# Altium footprint library MY_PCB_Lib.PcbLib: 310 footprints (part 18 of 20)
Each footprint in its own frame and in the unit in brackets; x right, y up, seen from the top. Pads: shape width x height; smd on the part's side, far side on the other; paste and mask are expansions set on the pad; w line width, h text height; cw(c..) or ccw(c..) is an arc to the next point about the centre after c.
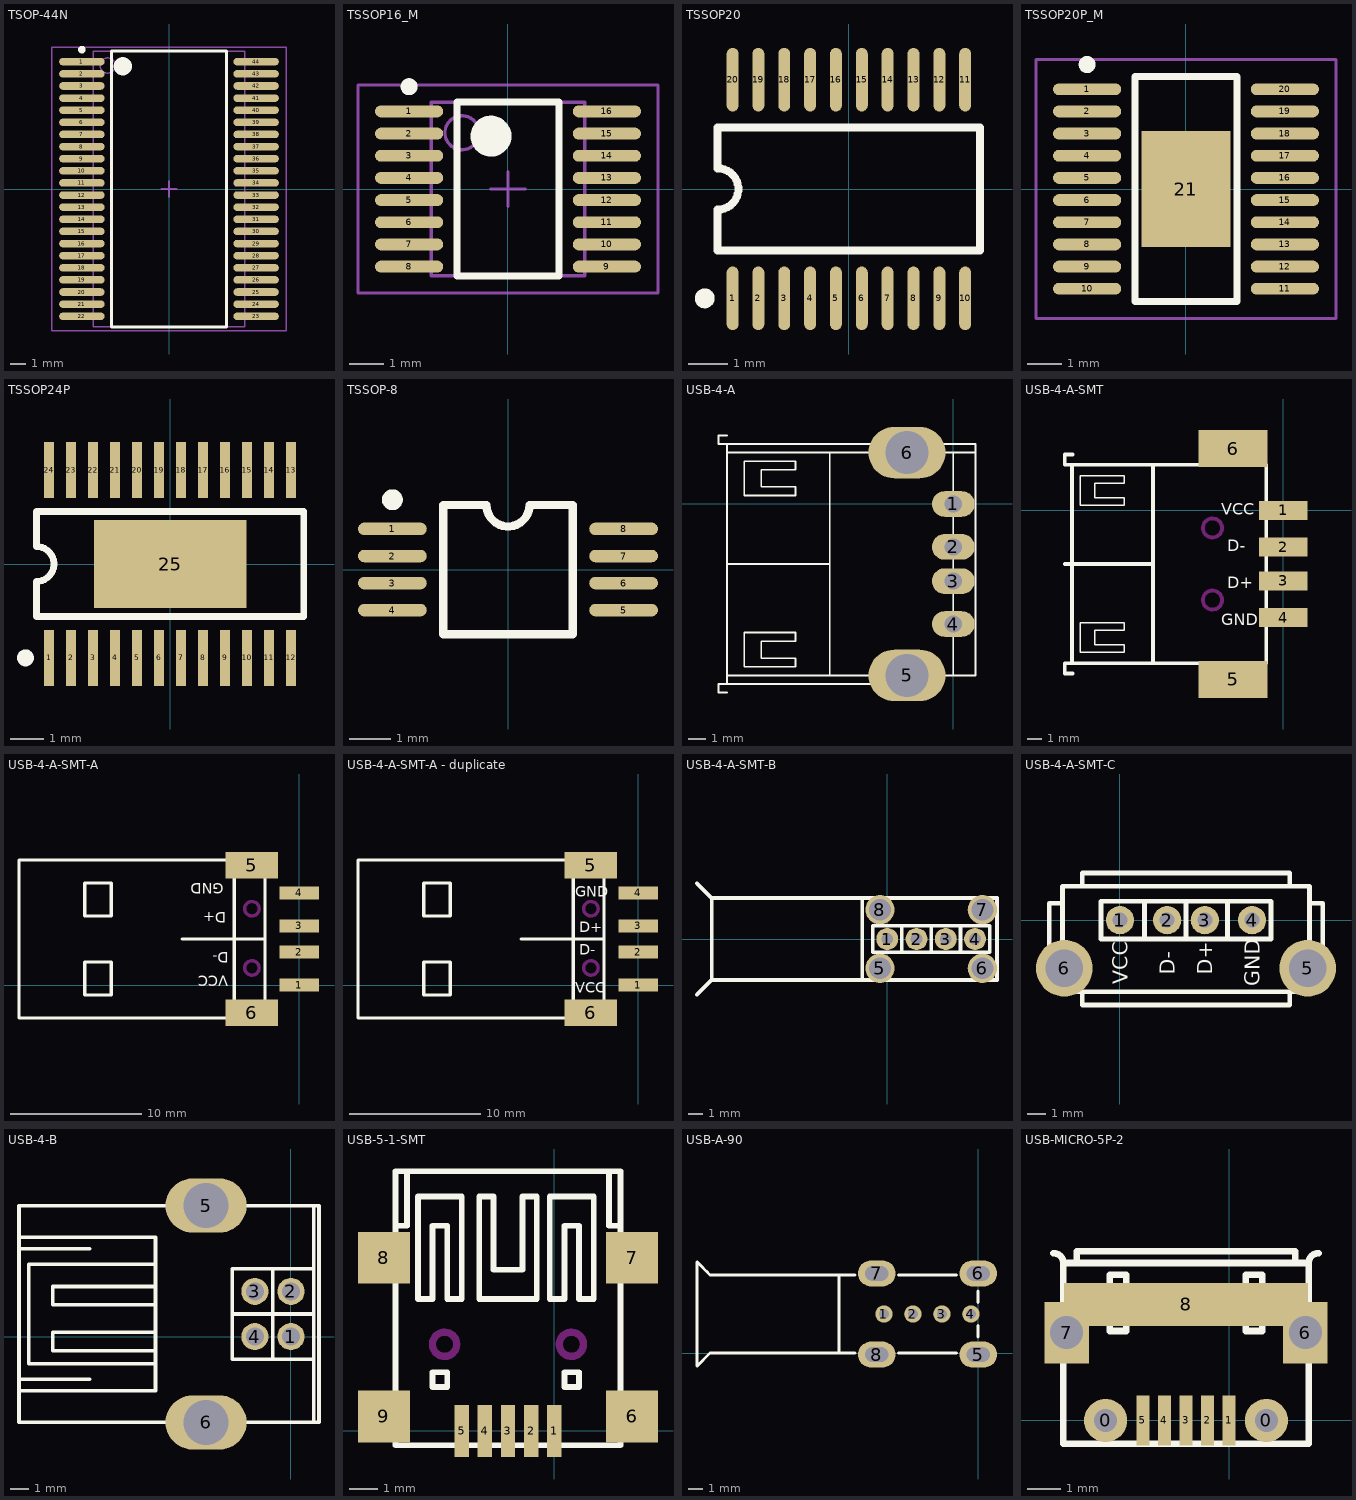
[diagram p17: the footprints below, top view; thin cyan lines are the x and y axes]

## TSOP-44N [mm] "TSOP, 44-Leads, Body 18.2x10.0mm (max), Pitch 0.80mm, IPC Medium Density"
height 1.2
pads (44):
  oval 3x0.5 smd: 1(-5.75,8.4) 2(-5.75,7.6) 3(-5.75,6.8) 4(-5.75,6) 5(-5.75,5.2) 6(-5.75,4.4) 7(-5.75,3.6) 8(-5.75,2.8) 9(-5.75,2) 10(-5.75,1.2) 11(-5.75,0.4) 12(-5.75,-0.4) 13(-5.75,-1.2) 14(-5.75,-2) 15(-5.75,-2.8) 16(-5.75,-3.6) 17(-5.75,-4.4) 18(-5.75,-5.2) 19(-5.75,-6) 20(-5.75,-6.8) 21(-5.75,-7.6) 22(-5.75,-8.4) 23(5.75,-8.4) 24(5.75,-7.6) 25(5.75,-6.8) 26(5.75,-6) 27(5.75,-5.2) 28(5.75,-4.4) 29(5.75,-3.6) 30(5.75,-2.8) 31(5.75,-2) 32(5.75,-1.2) 33(5.75,-0.4) 34(5.75,0.4) 35(5.75,1.2) 36(5.75,2) 37(5.75,2.8) 38(5.75,3.6) 39(5.75,4.4) 40(5.75,5.2) 41(5.75,6) 42(5.75,6.8) 43(5.75,7.6) 44(5.75,8.4)
Top Overlay:
  circle w0.6: c-3.05,8.1 r0.3
  circle w0.25: c-5.75,9.2 r0.125
  lines w0.2: -3.81,-9.1 3.81,-9.1 3.81,9.1 -3.81,9.1 -3.81,-9.1
Mechanical 13:
  circle w0.1: c-4.05,8.15 r0.5
  lines w0.1: -5,-9.1 5,-9.1 5,9.1 -5,9.1 -5,-9.1
Mechanical 15:
  lines w0.1: -0.5,0 0.5,0 ; 0,-0.5 0,0.5 ; -7.747,-9.35 7.747,-9.35 7.747,9.35 -7.747,9.35 -7.747,-9.35
3D body: height 1.2, standoff 0.2, extent -5,-9.1 5,9.1

## TSSOP16_M [mm] "TSOP, 16-Leads, Body 5x4.4mm, Pitch 0.65mm, IPC Low Density"
height 1.1
pads (16):
  oval 2x0.35 smd: 1(-2.9,2.275) 2(-2.9,1.625) 3(-2.9,0.975) 4(-2.9,0.325) 5(-2.9,-0.325) 6(-2.9,-0.975) 7(-2.9,-1.625) 8(-2.9,-2.275) 9(2.9,-2.275) 10(2.9,-1.625) 11(2.9,-0.975) 12(2.9,-0.325) 13(2.9,0.325) 14(2.9,0.975) 15(2.9,1.625) 16(2.9,2.275)
Top Overlay:
  circle w0.25: c-2.9,3 r0.125
  circle w0.6: c-0.5,1.55 r0.3
  lines w0.2: -1.5,-2.55 -1.5,2.55 1.5,2.55 1.5,-2.55 -1.5,-2.55
Mechanical 13:
  circle w0.1: c-1.35,1.65 r0.5
  lines w0.1: -2.25,-2.55 -2.25,2.55 2.25,2.55 2.25,-2.55 -2.25,-2.55
Mechanical 15:
  lines w0.1: -0.5,0 0.5,0 ; 0,-0.5 0,0.5 ; -4.4,-3.05 -4.4,3.05 4.4,3.05 4.4,-3.05 -4.4,-3.05
3D body: height 1.1, standoff 0, extent -2.25,-2.55 2.25,2.55

## TSSOP20 [mm] "Shrink Small Outline; 20 Leads; Body Width 4.4 mm; Pitch 0.65 mm"
height 1.1
pads (20):
  oval 0.3x1.6 smd: 1(-2.925,-2.75) 2(-2.275,-2.75) 3(-1.625,-2.75) 4(-0.975,-2.75) 5(-0.325,-2.75) 6(0.325,-2.75) 7(0.975,-2.75) 8(1.625,-2.75) 9(2.275,-2.75) 10(2.925,-2.75) 11(2.925,2.75) 12(2.275,2.75) 13(1.625,2.75) 14(0.975,2.75) 15(0.325,2.75) 16(-0.325,2.75) 17(-0.975,2.75) 18(-1.625,2.75) 19(-2.275,2.75) 20(-2.925,2.75)
Top Overlay:
  circle w0.25: c-3.625,-2.75 r0.125
  lines w0.2: -3.3,-1.55 3.3,-1.55 3.3,1.55 -3.3,1.55 -3.3,0.52 cw(c-3.3,0) -3.3,-0.52 -3.3,-1.55
3D body: height 1.1, standoff 0, extent -3.302,-1.905 3.302,1.905

## TSSOP20P_M [mm] "TSOP, 20-Leads, Body 6.5x4.4mm, Pitch 0.65mm, IPC Low Density"
height 1.1
pads (21):
  oval 2x0.35 smd: 1(-2.9,2.925) 2(-2.9,2.275) 3(-2.9,1.625) 4(-2.9,0.975) 5(-2.9,0.325) 6(-2.9,-0.325) 7(-2.9,-0.975) 8(-2.9,-1.625) 9(-2.9,-2.275) 10(-2.9,-2.925) 11(2.9,-2.925) 12(2.9,-2.275) 13(2.9,-1.625) 14(2.9,-0.975) 15(2.9,-0.325) 16(2.9,0.325) 17(2.9,0.975) 18(2.9,1.625) 19(2.9,2.275) 20(2.9,2.925)
  rect 2.6x3.4 smd: 21(0,0)
Top Overlay:
  circle w0.25: c-2.9,3.65 r0.125
  lines w0.2: -1.5,-3.3 1.5,-3.3 1.5,3.3 -1.5,3.3 -1.5,-3.3
Mechanical 15:
  lines w0.1: -4.4,-3.8 4.4,-3.8 4.4,3.8 -4.4,3.8 -4.4,-3.8

## TSSOP24P [mm] "Shrink Small Outline; 24 Leads; Body Width 4.4 mm; Pitch 0.65 mm"
height 1.2
pads (25):
  rect 0.3x1.65 smd: 1(-3.575,-2.775) 2(-2.925,-2.775) 3(-2.275,-2.775) 4(-1.625,-2.775) 5(-0.975,-2.775) 6(-0.325,-2.775) 7(0.325,-2.775) 8(0.975,-2.775) 9(1.625,-2.775) 10(2.275,-2.775) 11(2.925,-2.775) 12(3.575,-2.775) 13(3.575,2.775) 14(2.925,2.775) 15(2.275,2.775) 16(1.625,2.775) 17(0.975,2.775) 18(0.325,2.775) 19(-0.325,2.775) 20(-0.975,2.775) 21(-1.625,2.775) 22(-2.275,2.775) 23(-2.925,2.775) 24(-3.575,2.775)
  rect 4.5x2.6 smd: 25(0,0)
Top Overlay:
  circle w0.25: c-4.275,-2.775 r0.125
  lines w0.2: -3.95,-1.55 3.95,-1.55 3.95,1.55 -3.95,1.55 -3.95,0.517 cw(c-3.95,0) -3.95,-0.517 -3.95,-1.55

## TSSOP-8 [mm]
height 0.8
pads (8):
  oval 1.65x0.3 smd: 1(-2.775,0.975) 2(-2.775,0.325) 3(-2.775,-0.325) 4(-2.775,-0.975) 5(2.775,-0.975) 6(2.775,-0.325) 7(2.775,0.325) 8(2.775,0.975)
Top Overlay:
  circle w0.25: c-2.775,1.675 r0.125
  lines w0.2: -1.55,-1.55 1.55,-1.55 1.55,1.55 0.517,1.55 cw(c0,1.55) -0.517,1.55 -1.55,1.55 -1.55,-1.55

## USB-4-A [mm]
pads (6):
  oval 2.5x1.5 hole 1: 1(0,0) 2(0,-2.5) 3(0,-4.5) 4(0,-7)
  oval 4.5x3 hole 2.5: 5(-2.7,-10) 6(-2.7,3)
Top Overlay:
  lines w0.1: -13.2,-11 -13.7,-11 -13.7,-10.5 -13.2,-10.5 ; -13.2,3 -2.7,3 ; -13.2,4 -13.7,4 -13.7,3.5 -13.2,3.5 ; -7.2,-10 -7.2,3 ; -7.2,-3.5 -13.2,-3.5 -13.2,-10.5 ; -2.7,-10.5 -2.7,-10 -13.2,-10 0,-10 ; -2.7,3.5 -2.7,3 ; -1.7,-10.5 -13.2,-10.5 ; 0,3 0,-10 ; 1.3,3 -2.7,3 ; -13.2,-10.5 -13.2,3.5 ; -13.2,3.5 1.3,3.5 1.3,-3.5 1.3,-10 0,-10 ; -12.2,-9.5 -12.2,-8 -12.2,-7.5 -9.2,-7.5 -9.2,-8 -11.2,-8 -11.2,-9 -9.2,-9 -9.2,-9.5 -12.2,-9.5 ; -12.2,0.5 -12.2,2 -12.2,2.5 -9.2,2.5 -9.2,2 -11.2,2 -11.2,1 -9.2,1 -9.2,0.5 -12.2,0.5
Bottom Overlay:
  lines w0.1: -13.2,-11 -13.7,-11 -13.7,-10.5 -13.2,-10.5 ; -13.2,-3.5 -7.2,-3.5 ; -13.2,3.5 -13.2,3 ; -13.2,4 -13.7,4 -13.7,3.5 1.3,3.5 1.3,-10 ; 0,-10 0,3 ; 1.3,3 -13.2,3 ; -13.2,-10.5 -13.2,-10 1.3,-10 ; -13.2,-10.5 1.3,-10.5 1.3,-10 ; -13.2,-10.5 -13.2,3
  text "VCC" at -1.524,-0.396 h1
  text "D-" at -2.032,-2.936 h1
  text "D+" at -2.032,-4.968 h1
  text "GND" at -2.032,-7.508 h1

## USB-4-A-SMT [mm]
pads (6):
  rect 3.3x1.3 smd: 1(0,0) 2(0,-2.5) 3(0,-4.8) 4(0,-7.3)
  rect 4.7x2.5 smd: 5(-3.4,-11.5) 6(-3.4,4.2)
Top Overlay:
  lines w0.1: -13.8,-9.65 -13.8,-8.15 -13.8,-7.65 -10.8,-7.65 -10.8,-8.15 -12.8,-8.15 -12.8,-9.15 -10.8,-9.15 -10.8,-9.65 -13.8,-9.65 ; -13.8,0.35 -13.8,1.85 -13.8,2.35 -10.8,2.35 -10.8,1.85 -12.8,1.85 -12.8,0.85 -10.8,0.85 -10.8,0.35 -13.8,0.35
  lines w0.254: -14.85,-3.65 -8.85,-3.65 ; -14.35,-10.4 -14.35,3.1 ; -14.3,-11.1 -14.85,-11.1 -14.85,-10.4 -1.15,-10.4 -1.15,3.1 -14.85,3.1 -14.85,3.8 -14.3,3.8 ; -8.85,-10.4 -8.85,3.1
  text "D+" at -3.8,-5.3 h0.8
  text "D-" at -3.8,-2.8 h0.8
  text "GND" at -4.2,-7.8 h0.8
  text "VCC" at -4.2,-0.3 h0.8
Bottom Overlay:
  lines w0.254: -14.35,-10.4 -14.35,3.1 ; -14.35,-3.65 -8.85,-3.65 ; -14.3,-11.1 -14.85,-11.1 -14.85,-10.4 -1.15,-10.4 -1.15,3.1 -14.85,3.1 -14.85,3.8 -14.3,3.8 ; -13.8,-9.65 -10.8,-9.65 -10.8,-9.15 -12.8,-9.15 -12.8,-8.15 -10.8,-8.15 -10.8,-7.65 -13.8,-7.65 -13.8,-9.65 ; -13.8,0.35 -10.8,0.35 -10.8,0.85 -12.8,0.85 -12.8,1.85 -10.8,1.85 -10.8,2.35 -13.8,2.35 -13.8,0.35
Keep-Out Layer:
  circle w0.254: c-4.8,-1.2 r0.65
  circle w0.254: c-4.8,-6.1 r0.65

## USB-4-A-SMT-A [mm]
pads (6):
  rect 3x1 smd: 1(0,0) 2(0,2.5) 3(0,4.5) 4(0,7)
  rect 4x2 all layers, no hole: 5(-3.6,9.1) 6(-3.6,-2.1)
Top Overlay:
  lines w0.254: -8.9,3.5 -2.6,3.5 ; -4.95,-2.5 -4.95,9.5 ; -21.3,-2.5 -21.3,9.5 -2.6,9.5 -2.6,-2.5 -21.3,-2.5 ; -16.3,-0.75 -14.3,-0.75 -14.3,1.75 -16.3,1.75 -16.3,-0.75 ; -16.3,5.25 -16.3,7.75 -14.3,7.75 -14.3,5.25 -16.3,5.25
  text "VCC" at -5.385,0.711 h0.8
  text "GND" at -5.74,7.747 h0.8
  text "D-" at -5.359,2.489 h0.8
  text "D+" at -5.537,5.537 h0.8
Bottom Overlay:
  lines w0.254: -4.95,-2.5 -4.95,9.5 ; -21.3,-2.5 -21.3,9.5 -2.6,9.5 -2.6,-2.5 -21.3,-2.5
Keep-Out Layer:
  circle w0.254: c-3.6,1.3 r0.55
  circle w0.254: c-3.6,5.8 r0.55
Mechanical 1:
  lines w0.254: -4.85,-2.6 -2.35,-2.6 -2.35,-1.6 -4.85,-1.6 -4.85,-2.6 ; -4.85,8.6 -2.35,8.6 -2.35,9.6 -4.85,9.6 -4.85,8.6

## USB-4-A-SMT-A - duplicate [mm]
pads (6):
  rect 3x1 smd: 1(0,0) 2(0,2.5) 3(0,4.5) 4(0,7)
  rect 4x2 all layers, no hole: 5(-3.6,9.1) 6(-3.6,-2.1)
Top Overlay:
  lines w0.254: -8.9,3.5 -2.6,3.5 ; -4.95,-2.5 -4.95,9.5 ; -21.3,-2.5 -2.6,-2.5 -2.6,9.5 -21.3,9.5 -21.3,-2.5 ; -16.3,-0.75 -16.3,1.75 -14.3,1.75 -14.3,-0.75 -16.3,-0.75 ; -16.3,5.25 -14.3,5.25 -14.3,7.75 -16.3,7.75 -16.3,5.25
  text "D+" at -4.5,4 h0.8
  text "D-" at -4.5,2.3 h0.8
  text "GND" at -4.8,6.7 h0.8
  text "VCC" at -4.8,-0.6 h0.8
Bottom Overlay:
  lines w0.254: -4.95,-2.5 -4.95,9.5 ; -21.3,-2.5 -2.6,-2.5 -2.6,9.5 -21.3,9.5 -21.3,-2.5
Keep-Out Layer:
  circle w0.254: c-3.6,5.8 r0.55
  circle w0.254: c-3.6,1.3 r0.55
Mechanical 1:
  lines w0.254: -4.85,-2.6 -4.85,-1.6 -2.35,-1.6 -2.35,-2.6 -4.85,-2.6 ; -4.85,8.6 -4.85,9.6 -2.35,9.6 -2.35,8.6 -4.85,8.6

## USB-4-A-SMT-B [mm]
pads (8):
  round 1.5 hole 0.8: 1(0,0) 2(2,0) 3(4,0) 4(6,0)
  round 2 hole 1.5: 5(-0.5,-2) 6(6.5,-2) 7(6.5,2) 8(-0.5,2)
Top Overlay:
  lines w0.254: -13,-3.8 -12,-2.8 ; -13,3.8 -12,2.8 ; -1.7,-2.7 -1.7,2.8 ; 1,-0.9 1,0.9 ; 3,-0.9 3,0.9 ; 5,-0.9 5,0.9 ; -12,-2.8 7.5,-2.8 7.5,2.8 -12,2.8 ; -12,-2.8 -12,2.8 ; -1,-0.9 7,-0.9 7,0.9 -1,0.9 -1,-0.9
Bottom Overlay:
  lines w0.254: -13,-3.8 -12,-2.8 ; -13,3.8 -12,2.8 ; -1.7,-2.8 -1.7,2.8 ; 1,-0.9 1,0.9 ; 3,-0.9 3,0.9 ; 5,-0.9 5,0.9 ; -12,-2.8 -12,2.8 ; -12,-2.8 7.5,-2.8 7.5,2.8 -12,2.8 ; -1,-0.9 7,-0.9 7,0.9 -1,0.9 -1,-0.9

## USB-4-A-SMT-C [mm]
pads (6):
  round 1.5 hole 0.8: 1(0,0) 2(2.5,0) 3(4.5,0) 4(7,0)
  round 3 hole 2: 5(9.95,-2.55) 6(-2.95,-2.55)
Top Overlay:
  lines w0.254: -3.05,-2.9 -3.75,-2.9 -3.75,0.9 -3.05,0.9 ; -2,-3.8 -2,-4.5 9,-4.5 9,-3.8 ; -2,1.8 -2,2.5 9,2.5 9,1.8 ; 1.3,-1 1.3,1 ; 3.5,-1 3.5,1 ; 5.7,-1 5.7,1 ; 10.05,-2.9 10.75,-2.9 10.75,0.9 10.05,0.9 ; -3.05,-3.8 -3.05,1.8 10.05,1.8 10.05,-3.8 -3.05,-3.8 ; -1,-1 8,-1 8,1 -1,1 -1,-1
  text "GND" at 7.4,-3.5 h0.8
  text "D+" at 4.9,-2.9 h0.8
  text "D-" at 2.9,-2.9 h0.8
  text "VCC" at 0.4,-3.4 h0.8
Bottom Overlay:
  lines w0.254: 1.3,-1 1.3,1 ; 3.5,-1 3.5,1 ; 5.7,-1 5.7,1 ; -3.1,-3.8 10.1,-3.8 10.1,1.8 -3.1,1.8 -3.1,-3.8 ; -1,-1 8,-1 8,1 -1,1 -1,-1

## USB-4-B [mm]
pads (6):
  round 1.5 hole 1: 1(0,0) 2(0,2.5) 3(-2,2.5) 4(-2,0)
  oval 4.5x3 hole 2.5: 5(-4.7,7.25) 6(-4.7,-4.75)
Top Overlay:
  lines w0.2: -15.05,-3 -7.5,-3 -7.5,5.5 -15.05,5.5 ; -15.05,-2.35 -11.144,-2.35 ; -15.05,4.85 -11.144,4.85 ; -7.5,-1.5 -14.5,-1.5 -14.5,4 -7.5,4 ; -7.5,-0.782 -13.176,-0.782 -13.176,0.234 -7.5,0.234 ; -7.5,1.758 -13.176,1.758 -13.176,2.774 -7.5,2.774 ; -3.25,1.25 1.25,1.25 ; -1,-1.25 -1,3.75 ; 1.25,-4.75 1.25,7.25 ; 1.25,-1.25 -3.25,-1.25 -3.25,3.75 1.25,3.75 ; -15.05,-4.75 -15.05,7.25 1.55,7.25 1.55,-4.75 -15.05,-4.75
Bottom Overlay:
  lines w0.2: -3.25,1.25 1.25,1.25 ; -1,-1.25 -1,3.75 ; 1.25,-4.75 1.25,7.25 ; 1.25,-1.25 -3.25,-1.25 -3.25,3.75 1.25,3.75 ; -15.05,-4.75 -15.05,7.25 1.55,7.25 1.55,-4.75 -15.05,-4.75
  text "VCC" at -0.476,-4.338 h1
  text "D+" at -2.508,4.298 h1
  text "GND" at -2.508,-4.338 h1
  text "D-" at -0.476,4.298 h1

## USB-5-1-SMT [mm]
pads (9):
  rect 0.5x1.8 smd: 1(0,0) 2(-0.8,0) 3(-1.6,0) 4(-2.4,0) 5(-3.2,0)
  rect 1.8x1.8 smd: 6(2.7,0.5) 7(2.7,6) 8(-5.9,6) 9(-5.9,0.5)
Top Overlay:
  lines w0.2: -5.5,7.112 -5.1,7.112 -5.1,9 ; 1.9,9 1.9,7.112 2.3,7.112 ; -5.5,-0.5 -5.5,9 2.3,9 2.3,-0.5 -5.5,-0.5 ; -4.724,4.572 -4.724,8.128 -3.2,8.128 -3.2,4.572 -3.708,4.572 -3.708,7.112 -4.216,7.112 -4.216,4.572 -4.724,4.572 ; -4.216,1.524 -3.708,1.524 -3.708,2.032 -4.216,2.032 -4.216,1.524 ; -2.6,4.572 -0.6,4.572 -0.6,8.128 -1.1,8.128 -1.1,5.588 -2.1,5.588 -2.1,8.128 -2.6,8.128 -2.6,4.572 ; -0.152,4.572 -0.152,8.128 1.372,8.128 1.372,4.572 0.864,4.572 0.864,7.112 0.356,7.112 0.356,4.572 -0.152,4.572 ; 0.356,1.524 0.864,1.524 0.864,2.032 0.356,2.032 0.356,1.524
Bottom Overlay:
  lines w0.2: -5.5,7.112 -5.1,7.112 -5.1,9 ; 1.9,9 1.9,7.112 2.3,7.112 ; -5.5,-0.5 -5.5,9 2.3,9 2.3,-0.5 -5.5,-0.5
Keep-Out Layer:
  circle w0.254: c0.6,3 r0.42
  circle w0.254: c-3.8,3 r0.42

## USB-A-90 [mm]
pads (8):
  round 1.2 hole 0.7: 1(-6.5,2.7) 2(-4.5,2.7) 3(-2.5,2.7) 4(-0.5,2.7)
  oval 2.6x1.8 hole 1 slot 1.6 at 0 deg: 5(0,-0.1) 6(0,5.5) 7(-7,5.5) 8(-7,-0.1)
Top Overlay:
  lines w0.203: -18.75,5.65 -18.5,5.4 ; -17.2,0 -8.5,0 ; -16.8,0 -18.5,0 -19.4,-0.9 -19.4,6.3 -18.5,5.4 ; -15.6,5.4 -18.5,5.4 ; -9.6,0 -9.6,5.4 ; -8.5,5.4 -18.5,5.4 ; -5.5,0 -1.5,0 ; -5.5,5.4 -1.5,5.4 ; 0,1.1 0,1.9 ; 0,3.5 0,4.3

## USB-MICRO-5P-2 [mm]
pads (10):
  round 1.3 hole 0.7: 0(-3.725,0) 0(1.125,0)
  rect 0.4x1.5 smd: 1(0,0) 2(-0.65,0) 3(-1.3,0) 4(-1.95,0) 5(-2.6,0)
  rect 1.35x1.85 hole 1: 6(2.3,2.65) 7(-4.9,2.65)
  rect 7.35x1.3 smd: 8(-1.3,3.5)
Top Overlay:
  lines w0.2: -5.3,5.05 cw(c-5.3,4.75) -5,4.75 2.4,4.75 cw(c2.7,4.75) 2.7,5.05 ; -5,4.8 -5,-0.7 2.4,-0.7 2.4,4.8 ; -4.6,4.75 -4.6,5.1 2,5.1 2,4.75 ; -3.6,2.7 -3.1,2.7 -3.1,4.4 -3.6,4.4 -3.6,2.7 ; 0.5,2.7 1,2.7 1,4.4 0.5,4.4 0.5,2.7
Bottom Overlay:
  lines w0.2: -5.3,-0.7 2.7,-0.7 2.7,5.1 -5.3,5.1 -5.3,-0.7